# Altium schematic symbol library kmilo17pet-TI_BattMgmt.SchLib: 950 symbols (part 9 of 60)
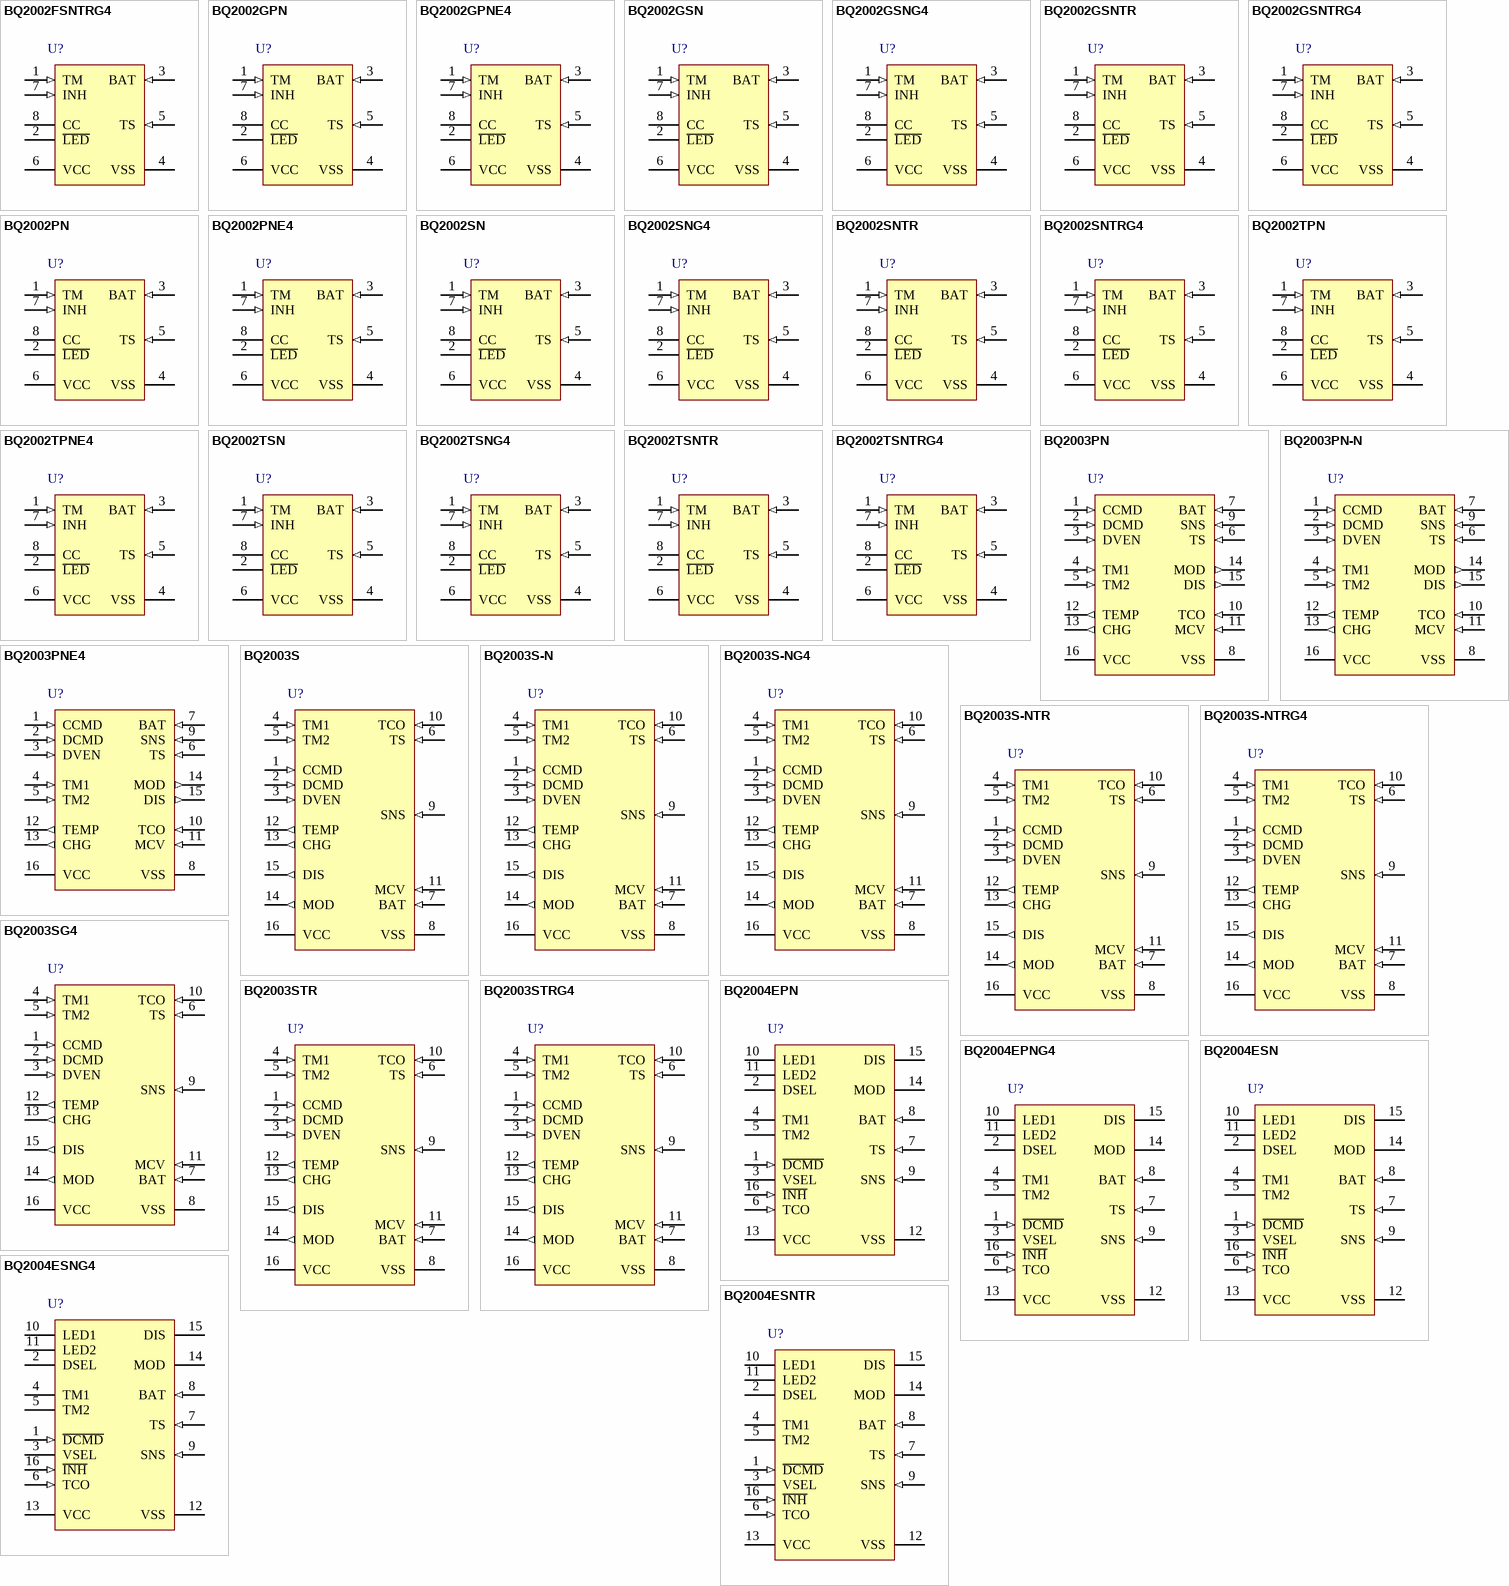
[diagram p42: symbols BQ2002FSNTRG4 to BQ2004ESNTR]

## BQ2004EPN
designator U?
Switch-Mode NiCd / NiMH Battery Charger with Negative dV, Peak Voltage Detection, dT / dt Termination, 4.5 V, -20 to 70 degC, 16-pin PDIP (N), Green (RoHS & no Sb/Br); PartNumber: BQ2004EPN; Manufacturer: Texas Instruments; NiCd: Y; SubFamily: Battery Charge Management; Vin(Min)(V): 4.5; DatasheetVersion: SLUS081A; PackageVersion: revE, Dec-2002; PackageReference: N16; PackageDescription: 16-Pin Plastic Dual-In-Line Package, Row Spacing 7.62 mm, Pitch 2.54 mm; Supplier 1: Digi-Key; Supplier Part Number 1: 296-9332-5-ND; Supplier Part Number 3: 595-BQ2004EPN; Eco-Plan: Green (RoHS & no Sb/Br); Lead Acid: N; Li-Ion: N; Li-Polymer: N; NiMH: Y; Over Voltage Protection: N; Mounting Technology: Through Hole; Code_JEDEC: MS-001*; ComponentLink1Description: Datasheet; ComponentLink1URL: http://www.ti.com/general/docs/lit/getliterature.tsp?genericPartNumber=BQ2004E&fileType=pdf
footprint N16 (DIP, 16-Leads, Row Spacing 7.62mm, Pitch 2.54mm, Body 19.3x6.4mm)
pins: 1 ~{DCMD} (in) "The D\C\M\D\ input controls the conditions that enable discharge-before-charge.D\C\M\D\ is pulled up internally. A negative-going pulse on D\C\M\D\ initiates a discharge to endof- discharge voltage (EDV) on the BAT (See Datasheet)", 2 DSEL "This three-state input configures the charge status display mode of the LED1 and LED2 outputs and can be used to disable top-off and pulsed-trickle. See Table 2.", 3 VSEL "This three-state input controls the voltagetermination technique used by the bq2004E/H. When high, PVD is active.When floating, -deltaV is used. When pulled low,both PVD and -deltaV are disabled.", 4 TM1 "TM1 and TM2 are three-state inputs that configure the fast charge safety timer, voltage termination hold-off time, "top-off" and trickle charge control. See Table 1.", 5 TM2 "TM1 and TM2 are three-state inputs that configure the fast charge safety timer, voltage termination hold-off time, "top-off" and trickle charge control. See Table 1.", 6 TCO (in) "Input to set maximum allowable battery temperature. If the potential between TS and SNS is less than the voltage at the TCO input, then fast charge or top-off charge is terminated.", 7 TS (in) "Input, referenced to SNS, for an external thermister monitoring battery temperature.", 8 BAT (in) "BAT is the battery voltage sense input, referenced to SNS. This is created by a highimpedance resistor-divider network connected between the positive and the negative terminals of the battery.", 9 SNS (in) "SNS controls the switching of MOD based on an external sense resistor in the current path of the battery. SNS is the reference potential for both the TS and BAT pins. If SNS is connected to VSS, then MOD switches high at the (See Datasheet)", 10 LED1 (hiz) "Push-pull outputs indicating charging status. See Table 2.", 11 LED2 (hiz) "Push-pull outputs indicating charging status. See Table 2.", 12 VSS (power) "Ground", 13 VCC (power) "5.0V, +/-10% power input.", 14 MOD (hiz) "MOD is a push-pull output that is used to control the charging current to the battery.MOD switches high to enable charging current to flow and low to inhibit charging current flow.", 15 DIS (hiz) "Push-pull output used to control an external transistor to discharge the battery before charging.", 16 ~{INH} (in) "When low, the bq2004E/H suspends all charge actions, drives all outputs to high impedance,and assumes a low-power operational state. When transitioning from low to high, a new charge cycle is started."

## BQ2004EPNG4
designator U?
Switch-Mode NiCd / NiMH Battery Charger with Negative dV, Peak Voltage Detection, dT / dt Termination, 4.5 V, -20 to 70 degC, 16-pin PDIP (N), Green (RoHS & no Sb/Br); PartNumber: BQ2004EPNG4; Manufacturer: Texas Instruments; NiCd: Y; SubFamily: Battery Charge Management; Vin(Min)(V): 4.5; DatasheetVersion: SLUS081A; PackageVersion: revE, Dec-2002; PackageReference: N16; PackageDescription: 16-Pin Plastic Dual-In-Line Package, Row Spacing 7.62 mm, Pitch 2.54 mm; Supplier 1: Digi-Key; Supplier Part Number 1: BQ2004EPNG4-ND; Supplier Part Number 3: 595-BQ2004EPNG4; Eco-Plan: Green (RoHS & no Sb/Br); Lead Acid: N; Li-Ion: N; Li-Polymer: N; NiMH: Y; Over Voltage Protection: N; Mounting Technology: Through Hole; Code_JEDEC: MS-001*; ComponentLink1Description: Datasheet; ComponentLink1URL: http://www.ti.com/general/docs/lit/getliterature.tsp?genericPartNumber=BQ2004E&fileType=pdf
footprint N16 (DIP, 16-Leads, Row Spacing 7.62mm, Pitch 2.54mm, Body 19.3x6.4mm)
pins: 1 ~{DCMD} (in) "The D\C\M\D\ input controls the conditions that enable discharge-before-charge.D\C\M\D\ is pulled up internally. A negative-going pulse on D\C\M\D\ initiates a discharge to endof- discharge voltage (EDV) on the BAT (See Datasheet)", 2 DSEL "This three-state input configures the charge status display mode of the LED1 and LED2 outputs and can be used to disable top-off and pulsed-trickle. See Table 2.", 3 VSEL "This three-state input controls the voltagetermination technique used by the bq2004E/H. When high, PVD is active.When floating, -deltaV is used. When pulled low,both PVD and -deltaV are disabled.", 4 TM1 "TM1 and TM2 are three-state inputs that configure the fast charge safety timer, voltage termination hold-off time, "top-off" and trickle charge control. See Table 1.", 5 TM2 "TM1 and TM2 are three-state inputs that configure the fast charge safety timer, voltage termination hold-off time, "top-off" and trickle charge control. See Table 1.", 6 TCO (in) "Input to set maximum allowable battery temperature. If the potential between TS and SNS is less than the voltage at the TCO input, then fast charge or top-off charge is terminated.", 7 TS (in) "Input, referenced to SNS, for an external thermister monitoring battery temperature.", 8 BAT (in) "BAT is the battery voltage sense input, referenced to SNS. This is created by a highimpedance resistor-divider network connected between the positive and the negative terminals of the battery.", 9 SNS (in) "SNS controls the switching of MOD based on an external sense resistor in the current path of the battery. SNS is the reference potential for both the TS and BAT pins. If SNS is connected to VSS, then MOD switches high at the (See Datasheet)", 10 LED1 (hiz) "Push-pull outputs indicating charging status. See Table 2.", 11 LED2 (hiz) "Push-pull outputs indicating charging status. See Table 2.", 12 VSS (power) "Ground", 13 VCC (power) "5.0V, +/-10% power input.", 14 MOD (hiz) "MOD is a push-pull output that is used to control the charging current to the battery.MOD switches high to enable charging current to flow and low to inhibit charging current flow.", 15 DIS (hiz) "Push-pull output used to control an external transistor to discharge the battery before charging.", 16 ~{INH} (in) "When low, the bq2004E/H suspends all charge actions, drives all outputs to high impedance,and assumes a low-power operational state. When transitioning from low to high, a new charge cycle is started."

## BQ2004ESN
designator U?
Switch-Mode NiCd / NiMH Battery Charger with Negative dV, Peak Voltage Detection, dT / dt Termination, 4.5 V, -20 to 70 degC, 16-pin SOIC (D), Green (RoHS & no Sb/Br); PartNumber: BQ2004ESN; Manufacturer: Texas Instruments; Lead Acid: N; NiCd: Y; SubFamily: Battery Charge Management; Vin(Min)(V): 4.5; DatasheetVersion: SLUS081A; PackageVersion: revM, Jun-2011; PackageReference: D16; PackageDescription: 16-Pin Plastic Small Outline Integrated Circuit, 9.9 x 3.9 mm, Pitch 1.27 mm Pitch; Supplier 1: Digi-Key; Supplier Part Number 1: 296-9333-5-ND; Supplier Part Number 3: 595-BQ2004ESN; Eco-Plan: Green (RoHS & no Sb/Br); Li-Ion: N; Li-Polymer: N; NiMH: Y; Over Voltage Protection: N; Mounting Technology: Surface Mount; Code_JEDEC: MS-012AC; ComponentLink1Description: Datasheet; ComponentLink1URL: http://www.ti.com/general/docs/lit/getliterature.tsp?genericPartNumber=BQ2004E&fileType=pdf
footprint D16_N (SOIC, 16-Leads, Body 9.9x3.9mm, Pitch 1.27mm, IPC Medium Density)
footprint D16_L (SOIC, 16-Leads, Body 9.9x3.9mm, Pitch 1.27mm, IPC High Density)
footprint D16_M (SOIC, 16-Leads, Body 9.9x3.9mm, Pitch 1.27mm, IPC Low Density)
pins: 1 ~{DCMD} (in) "The D\C\M\D\ input controls the conditions that enable discharge-before-charge.D\C\M\D\ is pulled up internally. A negative-going pulse on D\C\M\D\ initiates a discharge to endof- discharge voltage (EDV) on the BAT (See Datasheet)", 2 DSEL "This three-state input configures the charge status display mode of the LED1 and LED2 outputs and can be used to disable top-off and pulsed-trickle. See Table 2.", 3 VSEL "This three-state input controls the voltagetermination technique used by the bq2004. When high, PVD is active.When floating, -deltaV is used. When pulled low,both PVD and -deltaV are disabled.", 4 TM1 "TM1 is three-state input that configure the fast charge safety timer, voltage termination hold-off time, "top-off",and trickle charge control. See Table 1.", 5 TM2 "TM2 is three-state input that configure the fast charge safety timer, voltage termination hold-off time, "top-off",and trickle charge control. See Table 1.", 6 TCO (in) "Input to set maximum allowable battery temperature. If the potential between TS and SNS is less than the voltage at the TCO input, then fast charge or top-off charge is terminated.", 7 TS (in) "Input, referenced to SNS, for an external thermister monitoring battery temperature.", 8 BAT (in) "BAT is the battery voltage sense input, referenced to SNS. This is created by a highimpedance resistor-divider network connected between the positive and the negative terminals of the battery.", 9 SNS (in) "SNS controls the switching of MOD based on an external sense resistor in the current path of the battery. SNS is the reference potential for both the TS and BAT pins. If SNS is connected to VSS, then MOD switches high at the (See Datasheet)", 10 LED1 (hiz) "Push-pull outputs indicating charging status. See Table 2.", 11 LED2 (hiz) "Push-pull outputs indicating charging status. See Table 2.", 12 VSS (power) "Ground", 13 VCC (power) "5.0V, +/-10% power input.", 14 MOD (hiz) "MOD is a push-pull output that is used to control the charging current to the battery.MOD switches high to enable charging current to flow and low to inhibit charging current flow.", 15 DIS (hiz) "Push-pull output used to control an external transistor to discharge the battery before charging.", 16 ~{INH} (in) "When low, the bq2004 suspends all charge actions, drives all outputs to high impedance,and assumes a low-power operational state. When transitioning from low to high, a new charge cycle is started."

## BQ2004ESNG4
designator U?
Switch-Mode NiCd / NiMH Battery Charger with Negative dV, Peak Voltage Detection, dT / dt Termination, 4.5 V, -20 to 70 degC, 16-pin SOIC (D), Green (RoHS & no Sb/Br); PartNumber: BQ2004ESNG4; Manufacturer: Texas Instruments; Lead Acid: N; NiCd: Y; SubFamily: Battery Charge Management; Vin(Min)(V): 4.5; DatasheetVersion: SLUS081A; PackageVersion: revM, Jun-2011; PackageReference: D16; PackageDescription: 16-Pin Plastic Small Outline Integrated Circuit, 9.9 x 3.9 mm, Pitch 1.27 mm Pitch; Supplier 1: Digi-Key; Supplier Part Number 1: BQ2004ESNG4-ND; Supplier Part Number 3: 96K7076; Eco-Plan: Green (RoHS & no Sb/Br); Li-Ion: N; Li-Polymer: N; NiMH: Y; Over Voltage Protection: N; Mounting Technology: Surface Mount; Code_JEDEC: MS-012AC; ComponentLink1Description: Datasheet; ComponentLink1URL: http://www.ti.com/general/docs/lit/getliterature.tsp?genericPartNumber=BQ2004E&fileType=pdf
footprint D16_N (SOIC, 16-Leads, Body 9.9x3.9mm, Pitch 1.27mm, IPC Medium Density)
footprint D16_L (SOIC, 16-Leads, Body 9.9x3.9mm, Pitch 1.27mm, IPC High Density)
footprint D16_M (SOIC, 16-Leads, Body 9.9x3.9mm, Pitch 1.27mm, IPC Low Density)
pins: 1 ~{DCMD} (in) "The D\C\M\D\ input controls the conditions that enable discharge-before-charge.D\C\M\D\ is pulled up internally. A negative-going pulse on D\C\M\D\ initiates a discharge to endof- discharge voltage (EDV) on the BAT (See Datasheet)", 2 DSEL "This three-state input configures the charge status display mode of the LED1 and LED2 outputs and can be used to disable top-off and pulsed-trickle. See Table 2.", 3 VSEL "This three-state input controls the voltagetermination technique used by the bq2004. When high, PVD is active.When floating, -deltaV is used. When pulled low,both PVD and -deltaV are disabled.", 4 TM1 "TM1 is three-state input that configure the fast charge safety timer, voltage termination hold-off time, "top-off",and trickle charge control. See Table 1.", 5 TM2 "TM2 is three-state input that configure the fast charge safety timer, voltage termination hold-off time, "top-off",and trickle charge control. See Table 1.", 6 TCO (in) "Input to set maximum allowable battery temperature. If the potential between TS and SNS is less than the voltage at the TCO input, then fast charge or top-off charge is terminated.", 7 TS (in) "Input, referenced to SNS, for an external thermister monitoring battery temperature.", 8 BAT (in) "BAT is the battery voltage sense input, referenced to SNS. This is created by a highimpedance resistor-divider network connected between the positive and the negative terminals of the battery.", 9 SNS (in) "SNS controls the switching of MOD based on an external sense resistor in the current path of the battery. SNS is the reference potential for both the TS and BAT pins. If SNS is connected to VSS, then MOD switches high at the (See Datasheet)", 10 LED1 (hiz) "Push-pull outputs indicating charging status. See Table 2.", 11 LED2 (hiz) "Push-pull outputs indicating charging status. See Table 2.", 12 VSS (power) "Ground", 13 VCC (power) "5.0V, +/-10% power input.", 14 MOD (hiz) "MOD is a push-pull output that is used to control the charging current to the battery.MOD switches high to enable charging current to flow and low to inhibit charging current flow.", 15 DIS (hiz) "Push-pull output used to control an external transistor to discharge the battery before charging.", 16 ~{INH} (in) "When low, the bq2004 suspends all charge actions, drives all outputs to high impedance,and assumes a low-power operational state. When transitioning from low to high, a new charge cycle is started."

## BQ2004ESNTR
designator U?
Switch-Mode NiCd / NiMH Battery Charger with Negative dV, Peak Voltage Detection, dT / dt Termination, 4.5 V, -20 to 70 degC, 16-pin SOIC (D), Green (RoHS & no Sb/Br); PartNumber: BQ2004ESNTR; Manufacturer: Texas Instruments; Lead Acid: N; NiCd: Y; SubFamily: Battery Charge Management; Vin(Min)(V): 4.5; DatasheetVersion: SLUS081A; PackageVersion: revM, Jun-2011; PackageReference: D16; PackageDescription: 16-Pin Plastic Small Outline Integrated Circuit, 9.9 x 3.9 mm, Pitch 1.27 mm Pitch; Supplier 1: Digi-Key; Supplier Part Number 1: 296-29407-2-ND; Supplier Part Number 3: 296-29407-6-ND; Eco-Plan: Green (RoHS & no Sb/Br); Li-Ion: N; Li-Polymer: N; NiMH: Y; Over Voltage Protection: N; Mounting Technology: Surface Mount; Code_JEDEC: MS-012AC; ComponentLink1Description: Datasheet; ComponentLink1URL: http://www.ti.com/general/docs/lit/getliterature.tsp?genericPartNumber=BQ2004E&fileType=pdf
footprint D16_N (SOIC, 16-Leads, Body 9.9x3.9mm, Pitch 1.27mm, IPC Medium Density)
footprint D16_L (SOIC, 16-Leads, Body 9.9x3.9mm, Pitch 1.27mm, IPC High Density)
footprint D16_M (SOIC, 16-Leads, Body 9.9x3.9mm, Pitch 1.27mm, IPC Low Density)
pins: 1 ~{DCMD} (in) "The D\C\M\D\ input controls the conditions that enable discharge-before-charge.D\C\M\D\ is pulled up internally. A negative-going pulse on D\C\M\D\ initiates a discharge to endof- discharge voltage (EDV) on the BAT (See Datasheet)", 2 DSEL "This three-state input configures the charge status display mode of the LED1 and LED2 outputs and can be used to disable top-off and pulsed-trickle. See Table 2.", 3 VSEL "This three-state input controls the voltagetermination technique used by the bq2004. When high, PVD is active.When floating, -deltaV is used. When pulled low,both PVD and -deltaV are disabled.", 4 TM1 "TM1 is three-state input that configure the fast charge safety timer, voltage termination hold-off time, "top-off",and trickle charge control. See Table 1.", 5 TM2 "TM2 is three-state input that configure the fast charge safety timer, voltage termination hold-off time, "top-off",and trickle charge control. See Table 1.", 6 TCO (in) "Input to set maximum allowable battery temperature. If the potential between TS and SNS is less than the voltage at the TCO input, then fast charge or top-off charge is terminated.", 7 TS (in) "Input, referenced to SNS, for an external thermister monitoring battery temperature.", 8 BAT (in) "BAT is the battery voltage sense input, referenced to SNS. This is created by a highimpedance resistor-divider network connected between the positive and the negative terminals of the battery.", 9 SNS (in) "SNS controls the switching of MOD based on an external sense resistor in the current path of the battery. SNS is the reference potential for both the TS and BAT pins. If SNS is connected to VSS, then MOD switches high at the (See Datasheet)", 10 LED1 (hiz) "Push-pull outputs indicating charging status. See Table 2.", 11 LED2 (hiz) "Push-pull outputs indicating charging status. See Table 2.", 12 VSS (power) "Ground", 13 VCC (power) "5.0V, +/-10% power input.", 14 MOD (hiz) "MOD is a push-pull output that is used to control the charging current to the battery.MOD switches high to enable charging current to flow and low to inhibit charging current flow.", 15 DIS (hiz) "Push-pull output used to control an external transistor to discharge the battery before charging.", 16 ~{INH} (in) "When low, the bq2004 suspends all charge actions, drives all outputs to high impedance,and assumes a low-power operational state. When transitioning from low to high, a new charge cycle is started."

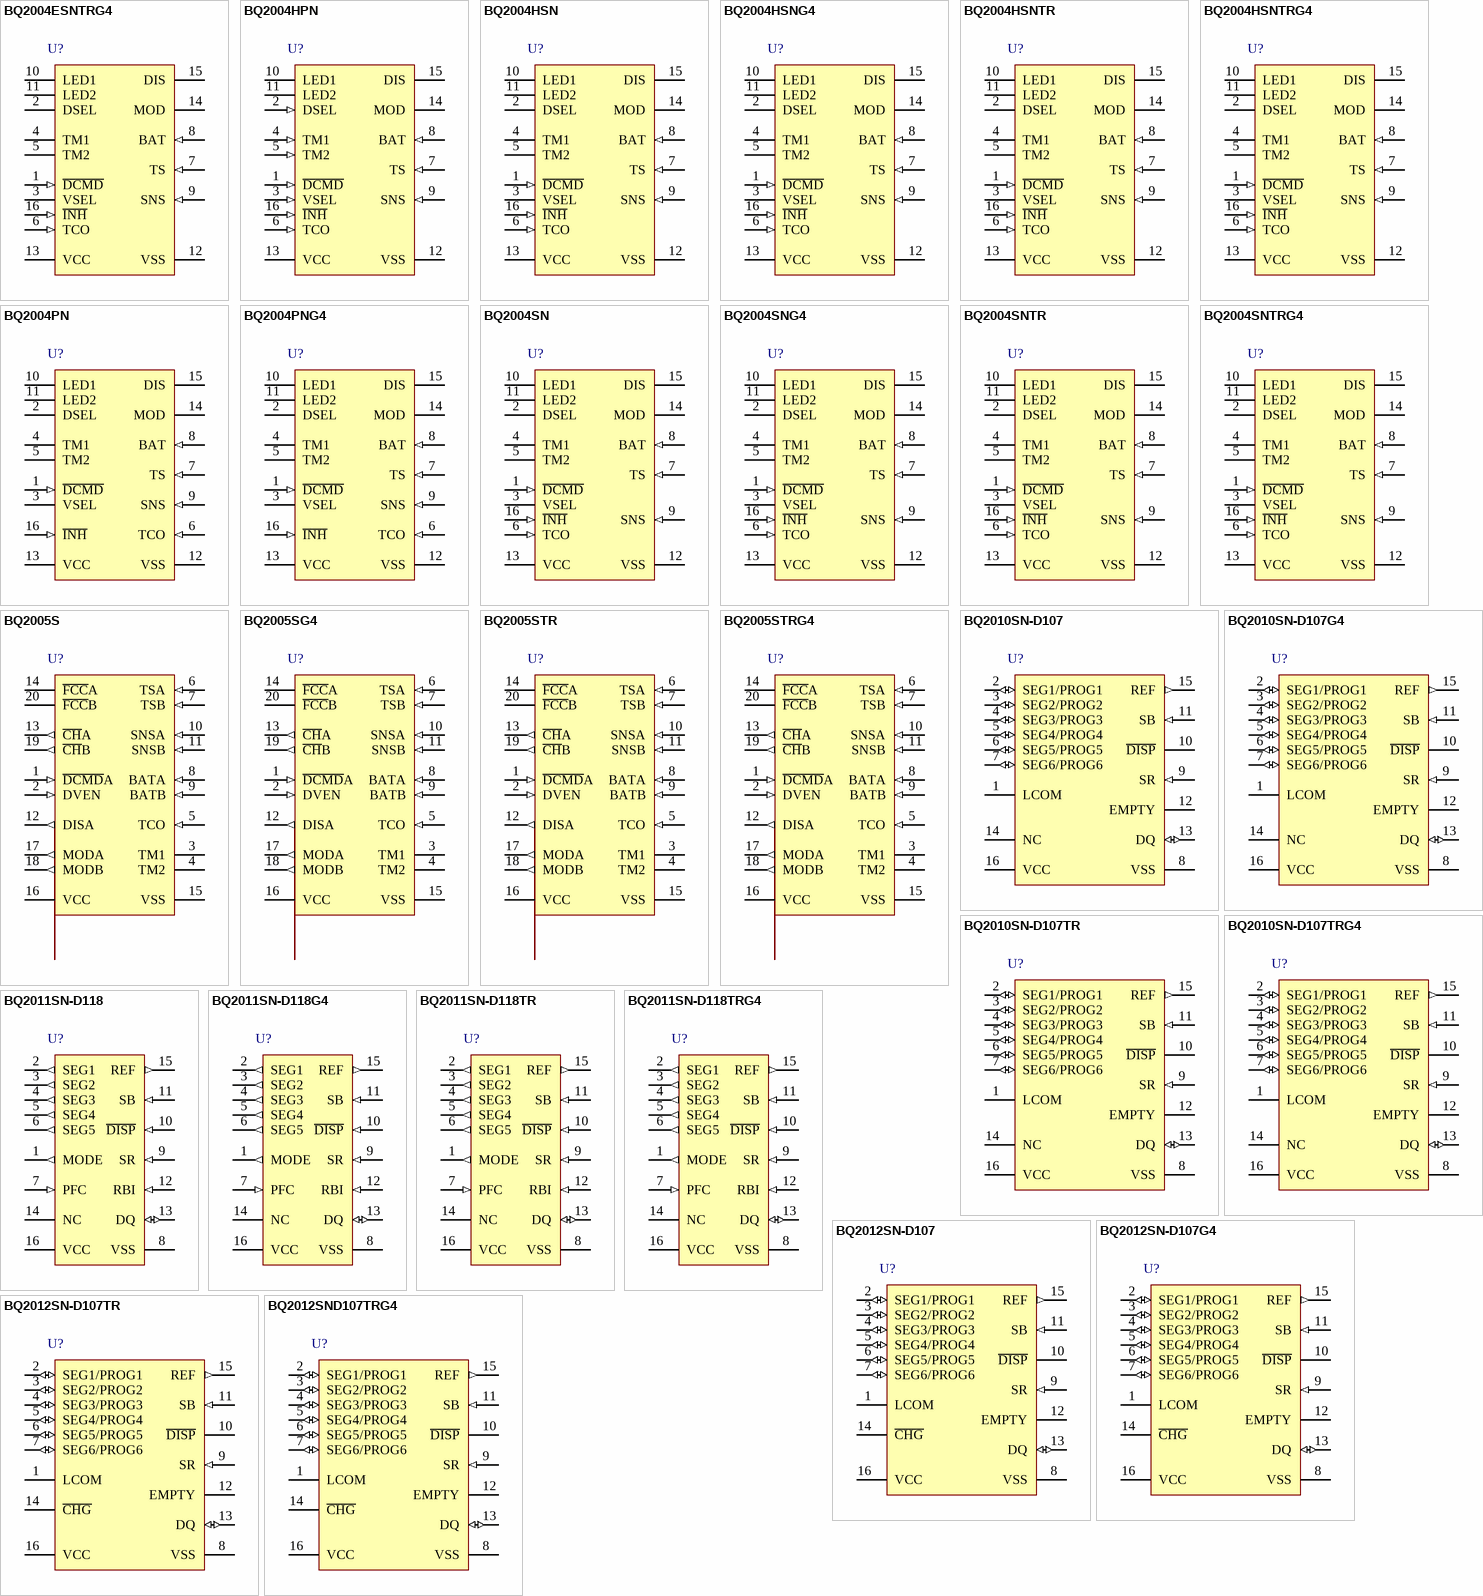
[diagram p5: symbols BQ2004ESNTRG4 to BQ2012SND107TRG4]

## BQ2004ESNTRG4
designator U?
Switch-Mode NiCd / NiMH Battery Charger with Negative dV, Peak Voltage Detection, dT / dt Termination, 4.5 V, -20 to 70 degC, 16-pin SOIC (D), Green (RoHS & no Sb/Br); PartNumber: BQ2004ESNTRG4; Manufacturer: Texas Instruments; Lead Acid: N; NiCd: Y; SubFamily: Battery Charge Management; Vin(Min)(V): 4.5; DatasheetVersion: SLUS081A; PackageVersion: revM, Jun-2011; PackageReference: D16; PackageDescription: 16-Pin Plastic Small Outline Integrated Circuit, 9.9 x 3.9 mm, Pitch 1.27 mm Pitch; Supplier 1: Digi-Key; Supplier Part Number 1: BQ2004ESNTRG4-ND; Supplier Part Number 3: 595-BQ2004ESNTRG4; Eco-Plan: Green (RoHS & no Sb/Br); Li-Ion: N; Li-Polymer: N; NiMH: Y; Over Voltage Protection: N; Mounting Technology: Surface Mount; Code_JEDEC: MS-012AC; ComponentLink1Description: Datasheet; ComponentLink1URL: http://www.ti.com/general/docs/lit/getliterature.tsp?genericPartNumber=BQ2004E&fileType=pdf
footprint D16_N (SOIC, 16-Leads, Body 9.9x3.9mm, Pitch 1.27mm, IPC Medium Density)
footprint D16_L (SOIC, 16-Leads, Body 9.9x3.9mm, Pitch 1.27mm, IPC High Density)
footprint D16_M (SOIC, 16-Leads, Body 9.9x3.9mm, Pitch 1.27mm, IPC Low Density)
pins: 1 ~{DCMD} (in) "The D\C\M\D\ input controls the conditions that enable discharge-before-charge.D\C\M\D\ is pulled up internally. A negative-going pulse on D\C\M\D\ initiates a discharge to endof- discharge voltage (EDV) on the BAT (See Datasheet)", 2 DSEL "This three-state input configures the charge status display mode of the LED1 and LED2 outputs and can be used to disable top-off and pulsed-trickle. See Table 2.", 3 VSEL "This three-state input controls the voltagetermination technique used by the bq2004. When high, PVD is active.When floating, -deltaV is used. When pulled low,both PVD and -deltaV are disabled.", 4 TM1 "TM1 is three-state input that configure the fast charge safety timer, voltage termination hold-off time, "top-off",and trickle charge control. See Table 1.", 5 TM2 "TM2 is three-state input that configure the fast charge safety timer, voltage termination hold-off time, "top-off",and trickle charge control. See Table 1.", 6 TCO (in) "Input to set maximum allowable battery temperature. If the potential between TS and SNS is less than the voltage at the TCO input, then fast charge or top-off charge is terminated.", 7 TS (in) "Input, referenced to SNS, for an external thermister monitoring battery temperature.", 8 BAT (in) "BAT is the battery voltage sense input, referenced to SNS. This is created by a highimpedance resistor-divider network connected between the positive and the negative terminals of the battery.", 9 SNS (in) "SNS controls the switching of MOD based on an external sense resistor in the current path of the battery. SNS is the reference potential for both the TS and BAT pins. If SNS is connected to VSS, then MOD switches high at the (See Datasheet)", 10 LED1 (hiz) "Push-pull outputs indicating charging status. See Table 2.", 11 LED2 (hiz) "Push-pull outputs indicating charging status. See Table 2.", 12 VSS (power) "Ground", 13 VCC (power) "5.0V, +/-10% power input.", 14 MOD (hiz) "MOD is a push-pull output that is used to control the charging current to the battery.MOD switches high to enable charging current to flow and low to inhibit charging current flow.", 15 DIS (hiz) "Push-pull output used to control an external transistor to discharge the battery before charging.", 16 ~{INH} (in) "When low, the bq2004 suspends all charge actions, drives all outputs to high impedance,and assumes a low-power operational state. When transitioning from low to high, a new charge cycle is started."

## BQ2004HPN
designator U?
Switch-Mode NiCd / NiMH Battery Charger with Negative dV, Peak Voltage Detection, dT / dt Termination, 4.5 V, -20 to 70 degC, 16-pin PDIP (N), Green (RoHS & no Sb/Br); PartNumber: BQ2004HPN; Manufacturer: Texas Instruments; NiCd: Y; SubFamily: Battery Charge Management; Vin(Min)(V): 4.5; DatasheetVersion: SLUS081A; PackageVersion: revE, Dec-2002; PackageReference: N16; PackageDescription: 16-Pin Plastic Dual-In-Line Package, Row Spacing 7.62 mm, Pitch 2.54 mm; Supplier 1: Digi-Key; Supplier Part Number 1: 296-9334-5-ND; Supplier Part Number 3: 595-BQ2004HPN; Eco-Plan: Green (RoHS & no Sb/Br); Lead Acid: N; Li-Ion: N; Li-Polymer: N; NiMH: Y; Over Voltage Protection: N; Mounting Technology: Through Hole; Code_JEDEC: MS-001*; ComponentLink1Description: Datasheet; ComponentLink1URL: http://www.ti.com/general/docs/lit/getliterature.tsp?genericPartNumber=BQ2004H&fileType=pdf
footprint N16 (DIP, 16-Leads, Row Spacing 7.62mm, Pitch 2.54mm, Body 19.3x6.4mm)
pins: 1 ~{DCMD} (in) "The D\C\M\D\ input controls the conditions that enable discharge-before-charge. DCMD is pulled up internally. A negative-going pulse on D\C\M\D\ initiates a discharge to endof- discharge voltage (EDV) on the BAT pin,followed (See Datasheet)", 2 DSEL (in) "This three-state input configures the charge status display mode of the LED1 and LED2 outputs and can be used to disable top-off and pulsed-trickle. See Table 2.", 3 VSEL (in) "This three-state input controls the voltagetermination technique used by the bq2004E/H. When high, PVD is active.When floating, -deltaV is used. When pulled low,both PVD and -deltaV are disabled.", 4 TM1 (in) "TM1 and TM2 are three-state inputs that configure the fast charge safety timer, voltage termination hold-off time, "top-off " and trickle charge control. See Table 1.", 5 TM2 (in) "TM1 and TM2 are three-state inputs that configure the fast charge safety timer, voltage termination hold-off time, "top-off " and trickle charge control. See Table 1.", 6 TCO (in) "Input to set maximum allowable battery temperature. If the potential between TS and SNS is less than the voltage at the TCO input, then fast charge or top-off charge is terminated.", 7 TS (in) "Input, referenced to SNS, for an external thermister monitoring battery temperature.", 8 BAT (in) "BAT is the battery voltage sense input, referenced to SNS. This is created by a highimpedance resistor-divider network connected between the positive and the negative terminals of the battery.", 9 SNS (in) "SNS controls the switching of MOD based on an external sense resistor in the current path of the battery. SNS is the reference potential for both the TS and BAT pins. If SNS is connected to VSS, then MOD switches high at the (See Datasheet)", 10 LED1 (hiz) "Push-pull outputs indicating charging status. See Table 2.", 11 LED2 (hiz) "Push-pull outputs indicating charging status. See Table 2.", 12 VSS (power) "Ground", 13 VCC (power) "5.0V, +/-10% power input.", 14 MOD (hiz) "MOD is a push-pull output that is used to control the charging current to the battery.MOD switches high to enable charging current to flow and low to inhibit charging current flow.", 15 DIS (hiz) "Push-pull output used to control an external transistor to discharge the battery before charging.", 16 ~{INH} (in) "When low, the bq2004E/H suspends all charge actions, drives all outputs to high impedance,and assumes a low-power operational state. When transitioning from low to high, a new charge cycle is started."

## BQ2004HSN
designator U?
Switch-Mode NiCd / NiMH Battery Charger with Negative dV, Peak Voltage Detection, dT / dt Termination, 4.5 V, -20 to 70 degC, 16-pin SOIC (D), Green (RoHS & no Sb/Br); PartNumber: BQ2004HSN; Manufacturer: Texas Instruments; Lead Acid: N; NiCd: Y; SubFamily: Battery Charge Management; Vin(Min)(V): 4.5; DatasheetVersion: SLUS081A; PackageVersion: revM, Jun-2011; PackageReference: D16; PackageDescription: 16-Pin Plastic Small Outline Integrated Circuit, 9.9 x 3.9 mm, Pitch 1.27 mm Pitch; Supplier 1: Digi-Key; Supplier Part Number 1: 296-9335-5-ND; Supplier Part Number 3: 595-BQ2004HSN; Eco-Plan: Green (RoHS & no Sb/Br); Li-Ion: N; Li-Polymer: N; NiMH: Y; Over Voltage Protection: N; Mounting Technology: Surface Mount; Code_JEDEC: MS-012AC; ComponentLink1Description: Datasheet; ComponentLink1URL: http://www.ti.com/general/docs/lit/getliterature.tsp?genericPartNumber=BQ2004H&fileType=pdf
footprint D16_N (SOIC, 16-Leads, Body 9.9x3.9mm, Pitch 1.27mm, IPC Medium Density)
footprint D16_L (SOIC, 16-Leads, Body 9.9x3.9mm, Pitch 1.27mm, IPC High Density)
footprint D16_M (SOIC, 16-Leads, Body 9.9x3.9mm, Pitch 1.27mm, IPC Low Density)
pins: 1 ~{DCMD} (in) "The D\C\M\D\ input controls the conditions that enable discharge-before-charge.D\C\M\D\ is pulled up internally. A negative-going pulse on D\C\M\D\ initiates a discharge to endof- discharge voltage (EDV) on the BAT (See Datasheet)", 2 DSEL "This three-state input configures the charge status display mode of the LED1 and LED2 outputs and can be used to disable top-off and pulsed-trickle. See Table 2.", 3 VSEL "This three-state input controls the voltagetermination technique used by the bq2004E/H. When high, PVD is active.When floating, -deltaV is used. When pulled low,both PVD and -deltaV are disabled.", 4 TM1 "TM1 is three-state input that configure the fast charge safety timer, voltage termination hold-off time, "top-off" and trickle charge control. See Table 1.", 5 TM2 "TM2 is three-state input that configure the fast charge safety timer, voltage termination hold-off time, "top-off" and trickle charge control. See Table 1.", 6 TCO (in) "Input to set maximum allowable battery temperature. If the potential between TS and SNS is less than the voltage at the TCO input, then fast charge or top-off charge is terminated.", 7 TS (in) "Input, referenced to SNS, for an external thermister monitoring battery temperature.", 8 BAT (in) "BAT is the battery voltage sense input, referenced to SNS. This is created by a highimpedance resistor-divider network connected between the positive and the negative terminals of the battery.", 9 SNS (in) "SNS controls the switching of MOD based on an external sense resistor in the current path of the battery. SNS is the reference potential for both the TS and BAT pins. If SNS is connected to VSS, then MOD switches high at the (See Datasheet)", 10 LED1 (hiz) "Push-pull outputs indicating charging status. See Table 2.", 11 LED2 (hiz) "Push-pull outputs indicating charging status. See Table 2.", 12 VSS (power) "Ground", 13 VCC (power) "5.0V, +/-10% power input.", 14 MOD (hiz) "MOD is a push-pull output that is used to control the charging current to the battery.MOD switches high to enable charging current to flow and low to inhibit charging current flow.", 15 DIS (hiz) "Push-pull output used to control an external transistor to discharge the battery before charging.", 16 ~{INH} (in) "When low, the bq2004  suspends all charge actions, drives all outputs to high impedance,and assumes a low-power operational state. When transitioning from low to high, a new charge cycle is started."

## BQ2004HSNG4
designator U?
Switch-Mode NiCd / NiMH Battery Charger with Negative dV, Peak Voltage Detection, dT / dt Termination, 4.5 V, -20 to 70 degC, 16-pin SOIC (D), Green (RoHS & no Sb/Br); PartNumber: BQ2004HSNG4; Manufacturer: Texas Instruments; Lead Acid: N; NiCd: Y; SubFamily: Battery Charge Management; Vin(Min)(V): 4.5; DatasheetVersion: SLUS081A; PackageVersion: revM, Jun-2011; PackageReference: D16; PackageDescription: 16-Pin Plastic Small Outline Integrated Circuit, 9.9 x 3.9 mm, Pitch 1.27 mm Pitch; Supplier 1: Digi-Key; Supplier Part Number 1: BQ2004HSNG4-ND; Supplier Part Number 3: 595-BQ2004HSNG4; Eco-Plan: Green (RoHS & no Sb/Br); Li-Ion: N; Li-Polymer: N; NiMH: Y; Over Voltage Protection: N; Mounting Technology: Surface Mount; Code_JEDEC: MS-012AC; ComponentLink1Description: Datasheet; ComponentLink1URL: http://www.ti.com/general/docs/lit/getliterature.tsp?genericPartNumber=BQ2004H&fileType=pdf
footprint D16_N (SOIC, 16-Leads, Body 9.9x3.9mm, Pitch 1.27mm, IPC Medium Density)
footprint D16_L (SOIC, 16-Leads, Body 9.9x3.9mm, Pitch 1.27mm, IPC High Density)
footprint D16_M (SOIC, 16-Leads, Body 9.9x3.9mm, Pitch 1.27mm, IPC Low Density)
pins: 1 ~{DCMD} (in) "The D\C\M\D\ input controls the conditions that enable discharge-before-charge.D\C\M\D\ is pulled up internally. A negative-going pulse on D\C\M\D\ initiates a discharge to endof- discharge voltage (EDV) on the BAT (See Datasheet)", 2 DSEL "This three-state input configures the charge status display mode of the LED1 and LED2 outputs and can be used to disable top-off and pulsed-trickle. See Table 2.", 3 VSEL "This three-state input controls the voltagetermination technique used by the bq2004E/H. When high, PVD is active.When floating, -deltaV is used. When pulled low,both PVD and -deltaV are disabled.", 4 TM1 "TM1 is three-state input that configure the fast charge safety timer, voltage termination hold-off time, "top-off" and trickle charge control. See Table 1.", 5 TM2 "TM2 is three-state input that configure the fast charge safety timer, voltage termination hold-off time, "top-off" and trickle charge control. See Table 1.", 6 TCO (in) "Input to set maximum allowable battery temperature. If the potential between TS and SNS is less than the voltage at the TCO input, then fast charge or top-off charge is terminated.", 7 TS (in) "Input, referenced to SNS, for an external thermister monitoring battery temperature.", 8 BAT (in) "BAT is the battery voltage sense input, referenced to SNS. This is created by a highimpedance resistor-divider network connected between the positive and the negative terminals of the battery.", 9 SNS (in) "SNS controls the switching of MOD based on an external sense resistor in the current path of the battery. SNS is the reference potential for both the TS and BAT pins. If SNS is connected to VSS, then MOD switches high at the (See Datasheet)", 10 LED1 (hiz) "Push-pull outputs indicating charging status. See Table 2.", 11 LED2 (hiz) "Push-pull outputs indicating charging status. See Table 2.", 12 VSS (power) "Ground", 13 VCC (power) "5.0V, +/-10% power input.", 14 MOD (hiz) "MOD is a push-pull output that is used to control the charging current to the battery.MOD switches high to enable charging current to flow and low to inhibit charging current flow.", 15 DIS (hiz) "Push-pull output used to control an external transistor to discharge the battery before charging.", 16 ~{INH} (in) "When low, the bq2004  suspends all charge actions, drives all outputs to high impedance,and assumes a low-power operational state. When transitioning from low to high, a new charge cycle is started."

## BQ2004HSNTR
designator U?
Switch-Mode NiCd / NiMH Battery Charger with Negative dV, Peak Voltage Detection, dT / dt Termination, 4.5 V, -20 to 70 degC, 16-pin SOIC (D), Green (RoHS & no Sb/Br); PartNumber: BQ2004HSNTR; Manufacturer: Texas Instruments; Lead Acid: N; NiCd: Y; SubFamily: Battery Charge Management; Vin(Min)(V): 4.5; DatasheetVersion: SLUS081A; PackageVersion: revM, Jun-2011; PackageReference: D16; PackageDescription: 16-Pin Plastic Small Outline Integrated Circuit, 9.9 x 3.9 mm, Pitch 1.27 mm Pitch; Supplier 1: Digi-Key; Supplier Part Number 1: BQ2004HSNTR-ND; Supplier Part Number 3: 595-BQ2004HSNTR; Eco-Plan: Green (RoHS & no Sb/Br); Li-Ion: N; Li-Polymer: N; NiMH: Y; Over Voltage Protection: N; Mounting Technology: Surface Mount; Code_JEDEC: MS-012AC; ComponentLink1Description: Datasheet; ComponentLink1URL: http://www.ti.com/general/docs/lit/getliterature.tsp?genericPartNumber=BQ2004H&fileType=pdf
footprint D16_N (SOIC, 16-Leads, Body 9.9x3.9mm, Pitch 1.27mm, IPC Medium Density)
footprint D16_L (SOIC, 16-Leads, Body 9.9x3.9mm, Pitch 1.27mm, IPC High Density)
footprint D16_M (SOIC, 16-Leads, Body 9.9x3.9mm, Pitch 1.27mm, IPC Low Density)
pins: 1 ~{DCMD} (in) "The D\C\M\D\ input controls the conditions that enable discharge-before-charge.D\C\M\D\ is pulled up internally. A negative-going pulse on D\C\M\D\ initiates a discharge to endof- discharge voltage (EDV) on the BAT (See Datasheet)", 2 DSEL "This three-state input configures the charge status display mode of the LED1 and LED2 outputs and can be used to disable top-off and pulsed-trickle. See Table 2.", 3 VSEL "This three-state input controls the voltagetermination technique used by the bq2004E/H. When high, PVD is active.When floating, -deltaV is used. When pulled low,both PVD and -deltaV are disabled.", 4 TM1 "TM1 is three-state input that configure the fast charge safety timer, voltage termination hold-off time, "top-off" and trickle charge control. See Table 1.", 5 TM2 "TM2 is three-state input that configure the fast charge safety timer, voltage termination hold-off time, "top-off" and trickle charge control. See Table 1.", 6 TCO (in) "Input to set maximum allowable battery temperature. If the potential between TS and SNS is less than the voltage at the TCO input, then fast charge or top-off charge is terminated.", 7 TS (in) "Input, referenced to SNS, for an external thermister monitoring battery temperature.", 8 BAT (in) "BAT is the battery voltage sense input, referenced to SNS. This is created by a highimpedance resistor-divider network connected between the positive and the negative terminals of the battery.", 9 SNS (in) "SNS controls the switching of MOD based on an external sense resistor in the current path of the battery. SNS is the reference potential for both the TS and BAT pins. If SNS is connected to VSS, then MOD switches high at the (See Datasheet)", 10 LED1 (hiz) "Push-pull outputs indicating charging status. See Table 2.", 11 LED2 (hiz) "Push-pull outputs indicating charging status. See Table 2.", 12 VSS (power) "Ground", 13 VCC (power) "5.0V, +/-10% power input.", 14 MOD (hiz) "MOD is a push-pull output that is used to control the charging current to the battery.MOD switches high to enable charging current to flow and low to inhibit charging current flow.", 15 DIS (hiz) "Push-pull output used to control an external transistor to discharge the battery before charging.", 16 ~{INH} (in) "When low, the bq2004  suspends all charge actions, drives all outputs to high impedance,and assumes a low-power operational state. When transitioning from low to high, a new charge cycle is started."

## BQ2004HSNTRG4
designator U?
Switch-Mode NiCd / NiMH Battery Charger with Negative dV, Peak Voltage Detection, dT / dt Termination, 4.5 V, -20 to 70 degC, 16-pin SOIC (D), Green (RoHS & no Sb/Br); PartNumber: BQ2004HSNTRG4; Manufacturer: Texas Instruments; Lead Acid: N; NiCd: Y; SubFamily: Battery Charge Management; Vin(Min)(V): 4.5; DatasheetVersion: SLUS081A; PackageVersion: revM, Jun-2011; PackageReference: D16; PackageDescription: 16-Pin Plastic Small Outline Integrated Circuit, 9.9 x 3.9 mm, Pitch 1.27 mm Pitch; Supplier 1: Digi-Key; Supplier Part Number 1: BQ2004HSNTRG4-ND; Supplier Part Number 3: 595-BQ2004HSNTRG4; Eco-Plan: Green (RoHS & no Sb/Br); Li-Ion: N; Li-Polymer: N; NiMH: Y; Over Voltage Protection: N; Mounting Technology: Surface Mount; Code_JEDEC: MS-012AC; ComponentLink1Description: Datasheet; ComponentLink1URL: http://www.ti.com/general/docs/lit/getliterature.tsp?genericPartNumber=BQ2004H&fileType=pdf
footprint D16_N (SOIC, 16-Leads, Body 9.9x3.9mm, Pitch 1.27mm, IPC Medium Density)
footprint D16_L (SOIC, 16-Leads, Body 9.9x3.9mm, Pitch 1.27mm, IPC High Density)
footprint D16_M (SOIC, 16-Leads, Body 9.9x3.9mm, Pitch 1.27mm, IPC Low Density)
pins: 1 ~{DCMD} (in) "The D\C\M\D\ input controls the conditions that enable discharge-before-charge.D\C\M\D\ is pulled up internally. A negative-going pulse on D\C\M\D\ initiates a discharge to endof- discharge voltage (EDV) on the BAT (See Datasheet)", 2 DSEL "This three-state input configures the charge status display mode of the LED1 and LED2 outputs and can be used to disable top-off and pulsed-trickle. See Table 2.", 3 VSEL "This three-state input controls the voltagetermination technique used by the bq2004E/H. When high, PVD is active.When floating, -deltaV is used. When pulled low,both PVD and -deltaV are disabled.", 4 TM1 "TM1 is three-state input that configure the fast charge safety timer, voltage termination hold-off time, "top-off" and trickle charge control. See Table 1.", 5 TM2 "TM2 is three-state input that configure the fast charge safety timer, voltage termination hold-off time, "top-off" and trickle charge control. See Table 1.", 6 TCO (in) "Input to set maximum allowable battery temperature. If the potential between TS and SNS is less than the voltage at the TCO input, then fast charge or top-off charge is terminated.", 7 TS (in) "Input, referenced to SNS, for an external thermister monitoring battery temperature.", 8 BAT (in) "BAT is the battery voltage sense input, referenced to SNS. This is created by a highimpedance resistor-divider network connected between the positive and the negative terminals of the battery.", 9 SNS (in) "SNS controls the switching of MOD based on an external sense resistor in the current path of the battery. SNS is the reference potential for both the TS and BAT pins. If SNS is connected to VSS, then MOD switches high at the (See Datasheet)", 10 LED1 (hiz) "Push-pull outputs indicating charging status. See Table 2.", 11 LED2 (hiz) "Push-pull outputs indicating charging status. See Table 2.", 12 VSS (power) "Ground", 13 VCC (power) "5.0V, +/-10% power input.", 14 MOD (hiz) "MOD is a push-pull output that is used to control the charging current to the battery.MOD switches high to enable charging current to flow and low to inhibit charging current flow.", 15 DIS (hiz) "Push-pull output used to control an external transistor to discharge the battery before charging.", 16 ~{INH} (in) "When low, the bq2004  suspends all charge actions, drives all outputs to high impedance,and assumes a low-power operational state. When transitioning from low to high, a new charge cycle is started."

## BQ2004PN
designator U?
Switch-Mode NiCd / NiMH Battery Charger with Negative dV, Peak Voltage Detection, dT / dt Termination, 4.5 V, -20 to 70 degC, 16-pin PDIP (N), Green (RoHS & no Sb/Br); PartNumber: BQ2004PN; Manufacturer: Texas Instruments; NiCd: Y; SubFamily: Battery Charge Management; Vin(Min)(V): 4.5; DatasheetVersion: SLUS063B; PackageVersion: revE, Dec-2002; PackageReference: N16; PackageDescription: 16-Pin Plastic Dual-In-Line Package, Row Spacing 7.62 mm, Pitch 2.54 mm; Supplier 1: Digi-Key; Supplier Part Number 1: 296-9336-5-ND; Supplier Part Number 3: 595-BQ2004PN; Eco-Plan: Green (RoHS & no Sb/Br); Lead Acid: N; Li-Ion: N; Li-Polymer: N; NiMH: Y; Over Voltage Protection: N; Mounting Technology: Through Hole; Code_JEDEC: MS-001*; ComponentLink1Description: Datasheet; ComponentLink1URL: http://www.ti.com/general/docs/lit/getliterature.tsp?genericPartNumber=BQ2004&fileType=pdf
footprint N16 (DIP, 16-Leads, Row Spacing 7.62mm, Pitch 2.54mm, Body 19.3x6.4mm)
pins: 1 ~{DCMD} (in) "The D\C\M\D\ input controls the conditions that enable discharge-before-charge.D\C\M\D\ is pulled up internally. A negative-going pulse on D\C\M\D\ initiates a discharge to endof- discharge voltage (EDV) on the BAT (See Datasheet)", 2 DSEL "This three-state input configures the charge status display mode of the LED1 and LED2 outputs and can be used to disable top-off and pulsed-trickle. See Table 2.", 3 VSEL "This three-state input controls the voltagetermination technique used by the bq2004E/H. When high, PVD is active.When floating, -deltaV is used. When pulled low,both PVD and -deltaV are disabled.", 4 TM1 "TM1 is three-state input that configure the fast charge safety timer, voltage termination hold-off time, "top-off"and trickle charge control. See Table 1.", 5 TM2 "TM2 is three-state input that configure the fast charge safety timer, voltage termination hold-off time, "top-off"and trickle charge control. See Table 1.", 6 TCO (in) "Input to set maximum allowable battery temperature. If the potential between TS and SNS is less than the voltage at the TCO input, then fast charge or top-off charge is terminated.", 7 TS (in) "Input, referenced to SNS, for an external thermister monitoring battery temperature.", 8 BAT (in) "BAT is the battery voltage sense input, referenced to SNS. This is created by a highimpedance resistor-divider network connected between the positive and the negative terminals of the battery.", 9 SNS (in) "SNS controls the switching of MOD based on an external sense resistor in the current path of the battery. SNS is the reference potential for both the TS and BAT pins. If SNS is connected to VSS, then MOD switches high at the (See Datasheet)", 10 LED1 (hiz) "Push-pull outputs indicating charging status. See Table 2.", 11 LED2 (hiz) "Push-pull outputs indicating charging status. See Table 2.", 12 VSS (power) "Ground", 13 VCC (power) "5.0V, +/-10% power input.", 14 MOD (hiz) "MOD is a push-pull output that is used to control the charging current to the battery.MOD switches high to enable charging current to flow and low to inhibit charging current flow.", 15 DIS (hiz) "Push-pull output used to control an external transistor to discharge the battery before charging.", 16 ~{INH} (in) "When low, the bq2004  suspends all charge actions, drives all outputs to high impedance,and assumes a low-power operational state. When transitioning from low to high, a new charge cycle is started."

## BQ2004PNG4
designator U?
Switch-Mode NiCd / NiMH Battery Charger with Negative dV, Peak Voltage Detection, dT / dt Termination, 4.5 V, -20 to 70 degC, 16-pin PDIP (N), Green (RoHS & no Sb/Br); PartNumber: BQ2004PNG4; Manufacturer: Texas Instruments; NiCd: Y; SubFamily: Battery Charge Management; Vin(Min)(V): 4.5; DatasheetVersion: SLUS063B; PackageVersion: revE, Dec-2002; PackageReference: N16; PackageDescription: 16-Pin Plastic Dual-In-Line Package, Row Spacing 7.62 mm, Pitch 2.54 mm; Supplier 1: Digi-Key; Supplier Part Number 1: BQ2004PNG4-ND; Supplier Part Number 3: 595-BQ2004PNG4; Eco-Plan: Green (RoHS & no Sb/Br); Lead Acid: N; Li-Ion: N; Li-Polymer: N; NiMH: Y; Over Voltage Protection: N; Mounting Technology: Through Hole; Code_JEDEC: MS-001*; ComponentLink1Description: Datasheet; ComponentLink1URL: http://www.ti.com/general/docs/lit/getliterature.tsp?genericPartNumber=BQ2004&fileType=pdf
footprint N16 (DIP, 16-Leads, Row Spacing 7.62mm, Pitch 2.54mm, Body 19.3x6.4mm)
pins: 1 ~{DCMD} (in) "The D\C\M\D\ input controls the conditions that enable discharge-before-charge.D\C\M\D\ is pulled up internally. A negative-going pulse on D\C\M\D\ initiates a discharge to endof- discharge voltage (EDV) on the BAT (See Datasheet)", 2 DSEL "This three-state input configures the charge status display mode of the LED1 and LED2 outputs and can be used to disable top-off and pulsed-trickle. See Table 2.", 3 VSEL "This three-state input controls the voltagetermination technique used by the bq2004E/H. When high, PVD is active.When floating, -deltaV is used. When pulled low,both PVD and -deltaV are disabled.", 4 TM1 "TM1 is three-state input that configure the fast charge safety timer, voltage termination hold-off time, "top-off"and trickle charge control. See Table 1.", 5 TM2 "TM2 is three-state input that configure the fast charge safety timer, voltage termination hold-off time, "top-off"and trickle charge control. See Table 1.", 6 TCO (in) "Input to set maximum allowable battery temperature. If the potential between TS and SNS is less than the voltage at the TCO input, then fast charge or top-off charge is terminated.", 7 TS (in) "Input, referenced to SNS, for an external thermister monitoring battery temperature.", 8 BAT (in) "BAT is the battery voltage sense input, referenced to SNS. This is created by a highimpedance resistor-divider network connected between the positive and the negative terminals of the battery.", 9 SNS (in) "SNS controls the switching of MOD based on an external sense resistor in the current path of the battery. SNS is the reference potential for both the TS and BAT pins. If SNS is connected to VSS, then MOD switches high at the (See Datasheet)", 10 LED1 (hiz) "Push-pull outputs indicating charging status. See Table 2.", 11 LED2 (hiz) "Push-pull outputs indicating charging status. See Table 2.", 12 VSS (power) "Ground", 13 VCC (power) "5.0V, +/-10% power input.", 14 MOD (hiz) "MOD is a push-pull output that is used to control the charging current to the battery.MOD switches high to enable charging current to flow and low to inhibit charging current flow.", 15 DIS (hiz) "Push-pull output used to control an external transistor to discharge the battery before charging.", 16 ~{INH} (in) "When low, the bq2004  suspends all charge actions, drives all outputs to high impedance,and assumes a low-power operational state. When transitioning from low to high, a new charge cycle is started."